# Altium schematic symbol library kmilo17pet-TI_LDO_400_7500.SchLib: 1409 symbols (part 32 of 60)
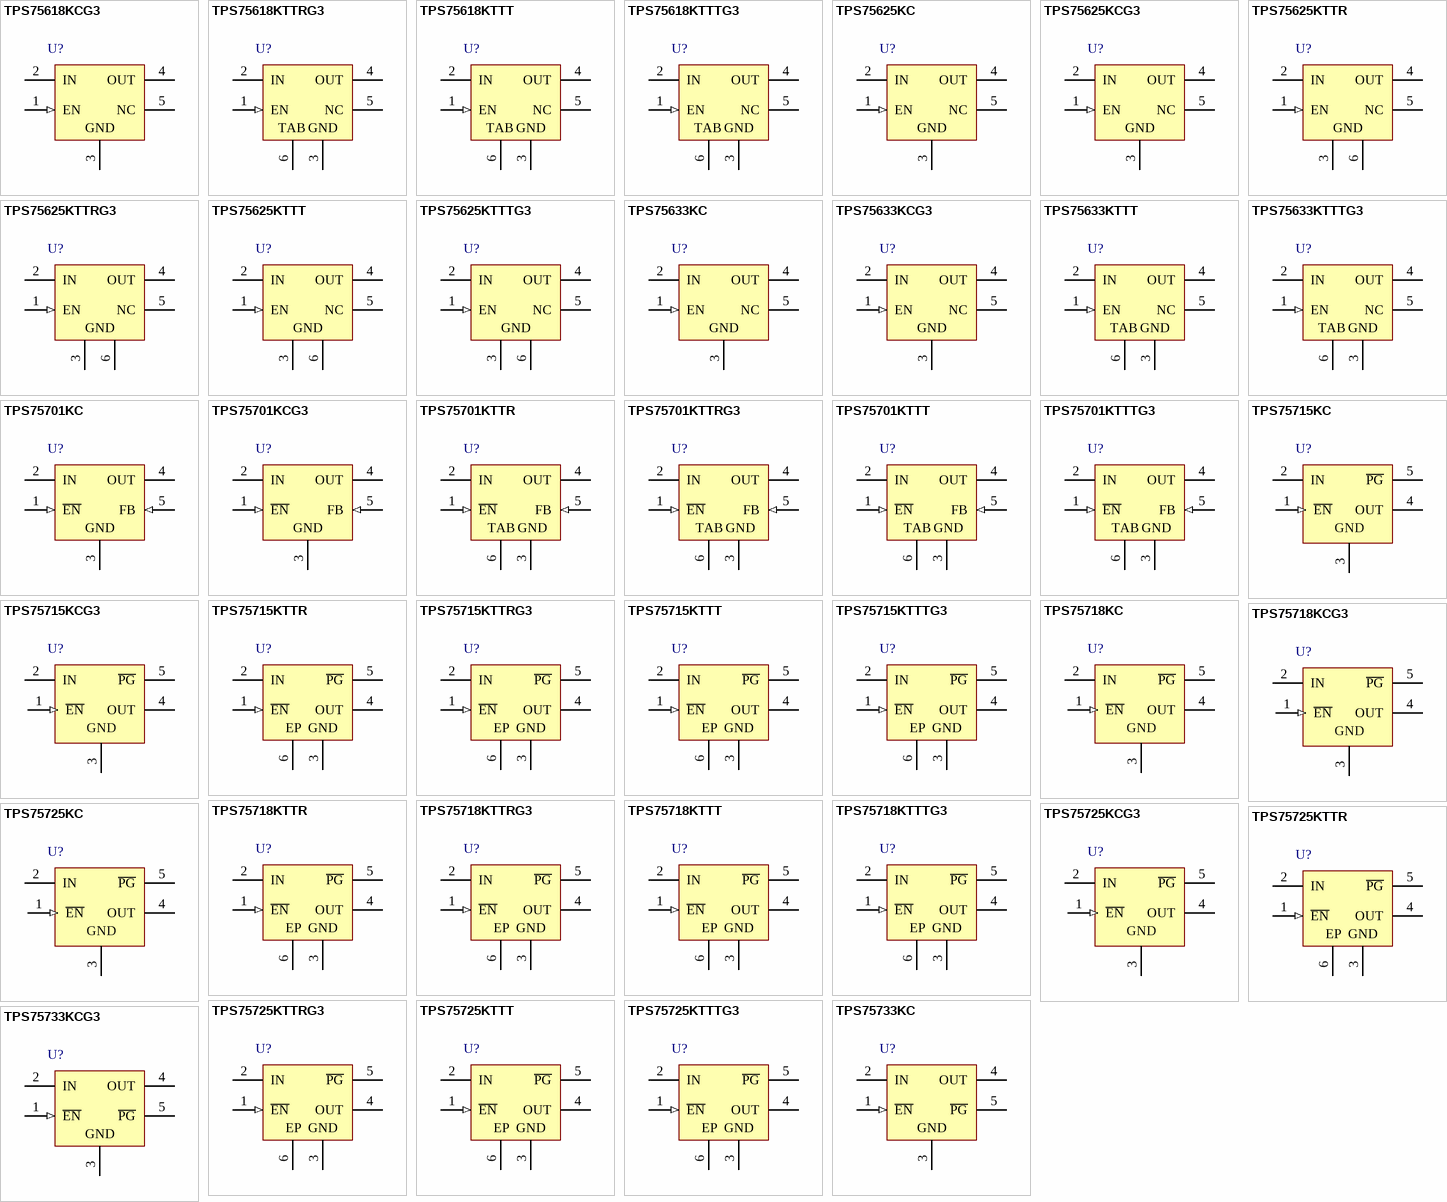
[diagram p81: symbols TPS75618KCG3 to TPS75733KCG3]

## TPS75625KTTR
designator U?
Single Output Fast Transient Response LDO, 5 A, Fixed 2.5 V Output, 2.8 to 5.5 V Input, with Low IQ, 5-pin DDPAK (KTT), -40 to 85 degC, Green (RoHS & no Sb/Br); Manufacturer: Texas Instruments; PartNumber: TPS75625KTTR; Accuracy(%): 3; Fixed Output Options(V): 2.5; Iout(Max)(A): 5; Iq(Typ)(mA): 0.12; SubFamily: Single Channel LDO; Vdo(Typ)(mV): 250; Vin(Max)(V): 5.5; Vin(Min)(V): 2.8; DatasheetVersion: SLVS329C; PackageVersion: 4200577-3/F; PackageReference: KTT5; PackageDescription: 3-Pin Plastic Flange Mount, Body 10.16 x 10.34 mm, Pitch 1.7 mm; Supplier 1: Digi-Key; Supplier Part Number 1: TPS75625KTTR-ND; Supplier 2: Newark; Supplier Part Number 2: 77C0962; Supplier 3: Mouser; Supplier Part Number 3: 595-TPS75625KTTR; Eco-Plan: Green (RoHS & no Sb/Br); Vout Adj(Max)(V): 2.5; Vout Adj(Min)(V): 2.5; Mounting Technology: Surface Mount; Code_JEDEC: TO-263; ComponentLink1Description: Manufacturer URL; ComponentLink1URL: http://www.ti.com/; ComponentLink2Description: Datasheet; ComponentLink2URL: http://www.ti.com/general/docs/lit/getliterature.tsp?genericPartNumber=TPS75625&fileType=pdf; ComponentLink3Description: Package Specification; ComponentLink3URL: http://www.ti.com/litv/pdf/mpsf007e
footprint TI-KTT5_N (DPAK, 5-Leads, Body 10.16x8.925mm, Pitch 1.7mm, IPC Medium Density)
footprint TI-KTT5_L (DPAK, 5-Leads, Body 10.16x8.925mm, Pitch 1.7mm, IPC High Density)
footprint TI-KTT5_M (DPAK, 5-Leads, Body 10.16x8.925mm, Pitch 1.7mm, IPC Low Density)
pins: 1 EN (in) "Enable input", 2 IN (power) "Input voltage", 3 GND (power) "Regulator ground", 4 OUT (power) "Regulated output voltage", 5 NC "No connection for fixed options", 6 GND (power) "Regulator ground"

## TPS75625KTTRG3
designator U?
Single Output Fast Transient Response LDO, 5 A, Fixed 2.5 V Output, 2.8 to 5.5 V Input, with Low IQ, 5-pin DDPAK (KTT), -40 to 85 degC, Green (RoHS & no Sb/Br); Manufacturer: Texas Instruments; PartNumber: TPS75625KTTRG3; Accuracy(%): 3; Fixed Output Options(V): 2.5; Iout(Max)(A): 5; Iq(Typ)(mA): 0.12; SubFamily: Single Channel LDO; Vdo(Typ)(mV): 250; Vin(Max)(V): 5.5; Vin(Min)(V): 2.8; DatasheetVersion: SLVS329C; PackageVersion: 4200577-3/F; PackageReference: KTT5; PackageDescription: 3-Pin Plastic Flange Mount, Body 10.16 x 10.34 mm, Pitch 1.7 mm; Supplier 1: Digi-Key; Supplier Part Number 1: TPS75625KTTRG3-ND; Supplier 2: Mouser; Supplier Part Number 2: 595-TPS75625KTTRG3; Eco-Plan: Green (RoHS & no Sb/Br); Vout Adj(Max)(V): 2.5; Vout Adj(Min)(V): 2.5; Mounting Technology: Surface Mount; Code_JEDEC: TO-263; ComponentLink1Description: Manufacturer URL; ComponentLink1URL: http://www.ti.com/; ComponentLink2Description: Datasheet; ComponentLink2URL: http://www.ti.com/general/docs/lit/getliterature.tsp?genericPartNumber=TPS75625&fileType=pdf; ComponentLink3Description: Package Specification; ComponentLink3URL: http://www.ti.com/litv/pdf/mpsf007e
footprint TI-KTT5_N (DPAK, 5-Leads, Body 10.16x8.925mm, Pitch 1.7mm, IPC Medium Density)
footprint TI-KTT5_L (DPAK, 5-Leads, Body 10.16x8.925mm, Pitch 1.7mm, IPC High Density)
footprint TI-KTT5_M (DPAK, 5-Leads, Body 10.16x8.925mm, Pitch 1.7mm, IPC Low Density)
pins: 1 EN (in) "Enable input", 2 IN (power) "Input voltage", 3 GND (power) "Regulator ground", 4 OUT (power) "Regulated output voltage", 5 NC "No connection for fixed options", 6 GND (power) "Regulator ground"

## TPS75625KTTT
designator U?
Single Output Fast Transient Response LDO, 5 A, Fixed 2.5 V Output, 2.8 to 5.5 V Input, with Low IQ, 5-pin DDPAK (KTT), -40 to 125 degC, Green (RoHS & no Sb/Br); Manufacturer: Texas Instruments; PartNumber: TPS75625KTTT; Accuracy(%): 3; Fixed Output Options(V): 2.5; Iout(Max)(A): 5; Iq(Typ)(mA): 0.12; SubFamily: Single Channel LDO; Vdo(Typ)(mV): 250; Vin(Max)(V): 5.5; Vin(Min)(V): 2.8; DatasheetVersion: SLVS329C; PackageVersion: 4200577-3/F; PackageReference: KTT5; PackageDescription: 3-Pin Plastic Flange Mount, Body 10.16 x 10.34 mm, Pitch 1.7 mm; Supplier 1: Digi-Key; Supplier Part Number 1: 296-15918-2-ND; Supplier 2: Digi-Key; Supplier Part Number 2: 296-15918-1-ND; Supplier 3: Digi-Key; Supplier Part Number 3: 296-15918-6-ND; Supplier 4: Newark; Supplier Part Number 4: 87H2989; Supplier 5: Mouser; Supplier Part Number 5: 595-TPS75625KTTT; Eco-Plan: Green (RoHS & no Sb/Br); Vout Adj(Max)(V): 2.5; Vout Adj(Min)(V): 2.5; Mounting Technology: Surface Mount; Code_JEDEC: TO-263; ComponentLink1Description: Manufacturer URL; ComponentLink1URL: http://www.ti.com/; ComponentLink2Description: Datasheet; ComponentLink2URL: http://www.ti.com/general/docs/lit/getliterature.tsp?genericPartNumber=TPS75625&fileType=pdf; ComponentLink3Description: Package Specification; ComponentLink3URL: http://www.ti.com/litv/pdf/mpsf007e
footprint TI-KTT5_N (DPAK, 5-Leads, Body 10.16x8.925mm, Pitch 1.7mm, IPC Medium Density)
footprint TI-KTT5_L (DPAK, 5-Leads, Body 10.16x8.925mm, Pitch 1.7mm, IPC High Density)
footprint TI-KTT5_M (DPAK, 5-Leads, Body 10.16x8.925mm, Pitch 1.7mm, IPC Low Density)
pins: 1 EN (in) "Enable input", 2 IN (power) "Input voltage", 3 GND (power) "Regulator ground", 4 OUT (power) "Regulated output voltage", 5 NC "No connection for fixed options", 6 GND (power) "Regulator ground"

## TPS75625KTTTG3
designator U?
Single Output Fast Transient Response LDO, 5 A, Fixed 2.5 V Output, 2.8 to 5.5 V Input, with Low IQ, 5-pin DDPAK (KTT), -40 to 125 degC, Green (RoHS & no Sb/Br); Manufacturer: Texas Instruments; PartNumber: TPS75625KTTTG3; Accuracy(%): 3; Fixed Output Options(V): 2.5; Iout(Max)(A): 5; Iq(Typ)(mA): 0.12; SubFamily: Single Channel LDO; Vdo(Typ)(mV): 250; Vin(Max)(V): 5.5; Vin(Min)(V): 2.8; DatasheetVersion: SLVS329C; PackageVersion: 4200577-3/F; PackageReference: KTT5; PackageDescription: 3-Pin Plastic Flange Mount, Body 10.16 x 10.34 mm, Pitch 1.7 mm; Supplier 1: Digi-Key; Supplier Part Number 1: TPS75625KTTTG3-ND; Supplier 2: Mouser; Supplier Part Number 2: 595-TPS75625KTTTG3; Eco-Plan: Green (RoHS & no Sb/Br); Vout Adj(Max)(V): 2.5; Vout Adj(Min)(V): 2.5; Mounting Technology: Surface Mount; Code_JEDEC: TO-263; ComponentLink1Description: Manufacturer URL; ComponentLink1URL: http://www.ti.com/; ComponentLink2Description: Datasheet; ComponentLink2URL: http://www.ti.com/general/docs/lit/getliterature.tsp?genericPartNumber=TPS75625&fileType=pdf; ComponentLink3Description: Package Specification; ComponentLink3URL: http://www.ti.com/litv/pdf/mpsf007e
footprint TI-KTT5_N (DPAK, 5-Leads, Body 10.16x8.925mm, Pitch 1.7mm, IPC Medium Density)
footprint TI-KTT5_L (DPAK, 5-Leads, Body 10.16x8.925mm, Pitch 1.7mm, IPC High Density)
footprint TI-KTT5_M (DPAK, 5-Leads, Body 10.16x8.925mm, Pitch 1.7mm, IPC Low Density)
pins: 1 EN (in) "Enable input", 2 IN (power) "Input voltage", 3 GND (power) "Regulator ground", 4 OUT (power) "Regulated output voltage", 5 NC "No connection for fixed options", 6 GND (power) "Regulator ground"

## TPS75633KC
designator U?
Single Output Fast Transient Response LDO, 5 A, Fixed 3.3 V Output, 2.8 to 5.5 V Input, with Low IQ, 5-pin TO-220 (KC), -40 to 85 degC, Green (RoHS & no Sb/Br); Manufacturer: Texas Instruments; PartNumber: TPS75633KC; Accuracy(%): 3; Fixed Output Options(V): 3.3; Iout(Max)(A): 5; Iq(Typ)(mA): 0.12; SubFamily: Single Channel LDO; Vdo(Typ)(mV): 250; Vin(Max)(V): 5.5; Vin(Min)(V): 2.8; DatasheetVersion: SLVS329C; PackageVersion: 4040208/F; PackageReference: KC5; PackageDescription: 5-Pin Plastic Flange Mount; Supplier 1: Digi-Key; Supplier Part Number 1: 296-11955-5-ND; Supplier 2: Mouser; Supplier Part Number 2: 595-TPS75633KC; Eco-Plan: Green (RoHS & no Sb/Br); Vout Adj(Max)(V): 3.3; Vout Adj(Min)(V): 3.3; Mounting Technology: Through Hole; ComponentLink1Description: Manufacturer URL; ComponentLink1URL: http://www.ti.com/; ComponentLink2Description: Datasheet; ComponentLink2URL: http://www.ti.com/general/docs/lit/getliterature.tsp?genericPartNumber=TPS75633&fileType=pdf; ComponentLink3Description: Package Specification; ComponentLink3URL: http://www.ti.com/litv/pdf/msot008c
footprint TI-KC5 (FM, 5-Leads, Body 10.16x8.46mm, Pitch 1.7mm,)
pins: 1 EN (in) "Enable input", 2 IN (power) "Input supply", 3 GND (power) "Ground", 4 OUT (power) "Regulated output voltage", 5 NC "No connection"

## TPS75633KCG3
designator U?
Single Output Fast Transient Response LDO, 5 A, Fixed 3.3 V Output, 2.8 to 5.5 V Input, with Low IQ, 5-pin TO-220 (KC), -40 to 85 degC, Green (RoHS & no Sb/Br); Manufacturer: Texas Instruments; PartNumber: TPS75633KCG3; Accuracy(%): 3; Fixed Output Options(V): 3.3; Iout(Max)(A): 5; Iq(Typ)(mA): 0.12; SubFamily: Single Channel LDO; Vdo(Typ)(mV): 250; Vin(Max)(V): 5.5; Vin(Min)(V): 2.8; DatasheetVersion: SLVS329C; PackageVersion: 4040208/F; PackageReference: KC5; PackageDescription: 5-Pin Plastic Flange Mount; Supplier 1: Digi-Key; Supplier Part Number 1: TPS75633KCG3-ND; Supplier 2: Mouser; Supplier Part Number 2: 595-TPS75633KCG3; Eco-Plan: Green (RoHS & no Sb/Br); Vout Adj(Max)(V): 3.3; Vout Adj(Min)(V): 3.3; Mounting Technology: Through Hole; ComponentLink1Description: Manufacturer URL; ComponentLink1URL: http://www.ti.com/; ComponentLink2Description: Datasheet; ComponentLink2URL: http://www.ti.com/general/docs/lit/getliterature.tsp?genericPartNumber=TPS75633&fileType=pdf; ComponentLink3Description: Package Specification; ComponentLink3URL: http://www.ti.com/litv/pdf/msot008c
footprint TI-KC5 (FM, 5-Leads, Body 10.16x8.46mm, Pitch 1.7mm,)
pins: 1 EN (in) "Enable input", 2 IN (power) "Input supply", 3 GND (power) "Ground", 4 OUT (power) "Regulated output voltage", 5 NC "No connection"

## TPS75633KTTT
designator U?
Single Output Fast Transient Response LDO, 5 A, Fixed 3.3 V Output, 2.8 to 5.5 V Input, with Low IQ, 5-pin DDPAK (KTT), -40 to 125 degC, Green (RoHS & no Sb/Br); Manufacturer: Texas Instruments; PartNumber: TPS75633KTTT; Accuracy(%): 3; Fixed Output Options(V): 3.3; Iout(Max)(A): 5; Iq(Typ)(mA): 0.12; SubFamily: Single Channel LDO; Vdo(Typ)(mV): 250; Vin(Max)(V): 5.5; Vin(Min)(V): 2.8; DatasheetVersion: SLVS329C; PackageVersion: 4200577-3/F; PackageReference: KTT5; PackageDescription: 3-Pin Plastic Flange Mount, Body 10.16 x 10.34 mm, Pitch 1.7 mm; Supplier 1: Digi-Key; Supplier Part Number 1: 296-15919-2-ND; Supplier 2: Digi-Key; Supplier Part Number 2: 296-15919-1-ND; Supplier 3: Digi-Key; Supplier Part Number 3: 296-15919-6-ND; Supplier 4: Newark; Supplier Part Number 4: 87H2990; Supplier 5: Mouser; Supplier Part Number 5: 595-TPS75633KTTT; Eco-Plan: Green (RoHS & no Sb/Br); Vout Adj(Max)(V): 3.3; Vout Adj(Min)(V): 3.3; Mounting Technology: Surface Mount; Code_JEDEC: TO-263; ComponentLink1Description: Manufacturer URL; ComponentLink1URL: http://www.ti.com/; ComponentLink2Description: Datasheet; ComponentLink2URL: http://www.ti.com/general/docs/lit/getliterature.tsp?genericPartNumber=TPS75633&fileType=pdf; ComponentLink3Description: Package Specification; ComponentLink3URL: http://www.ti.com/litv/pdf/mpsf007e
footprint TI-KTT5_N (DPAK, 5-Leads, Body 10.16x8.925mm, Pitch 1.7mm, IPC Medium Density)
footprint TI-KTT5_L (DPAK, 5-Leads, Body 10.16x8.925mm, Pitch 1.7mm, IPC High Density)
footprint TI-KTT5_M (DPAK, 5-Leads, Body 10.16x8.925mm, Pitch 1.7mm, IPC Low Density)
pins: 1 EN (in) "Enable input", 2 IN (power) "Input voltage", 3 GND (power) "Regulator ground", 4 OUT (power) "Regulated output voltage", 5 NC "No connection for fixed options", 6 TAB (power) "Exposed Thermal Tab"

## TPS75633KTTTG3
designator U?
Single Output Fast Transient Response LDO, 5 A, Fixed 3.3 V Output, 2.8 to 5.5 V Input, with Low IQ, 5-pin DDPAK (KTT), -40 to 125 degC, Green (RoHS & no Sb/Br); Manufacturer: Texas Instruments; PartNumber: TPS75633KTTTG3; Accuracy(%): 3; Fixed Output Options(V): 3.3; Iout(Max)(A): 5; Iq(Typ)(mA): 0.12; SubFamily: Single Channel LDO; Vdo(Typ)(mV): 250; Vin(Max)(V): 5.5; Vin(Min)(V): 2.8; DatasheetVersion: SLVS329C; PackageVersion: 4200577-3/F; PackageReference: KTT5; PackageDescription: 3-Pin Plastic Flange Mount, Body 10.16 x 10.34 mm, Pitch 1.7 mm; Supplier 1: Digi-Key; Supplier Part Number 1: TPS75633KTTTG3-ND; Supplier 2: Newark; Supplier Part Number 2: 61K1920; Supplier 3: Mouser; Supplier Part Number 3: 595-TPS75633KTTTG3; Eco-Plan: Green (RoHS & no Sb/Br); Vout Adj(Max)(V): 3.3; Vout Adj(Min)(V): 3.3; Mounting Technology: Surface Mount; Code_JEDEC: TO-263; ComponentLink1Description: Manufacturer URL; ComponentLink1URL: http://www.ti.com/; ComponentLink2Description: Datasheet; ComponentLink2URL: http://www.ti.com/general/docs/lit/getliterature.tsp?genericPartNumber=TPS75633&fileType=pdf; ComponentLink3Description: Package Specification; ComponentLink3URL: http://www.ti.com/litv/pdf/mpsf007e
footprint TI-KTT5_N (DPAK, 5-Leads, Body 10.16x8.925mm, Pitch 1.7mm, IPC Medium Density)
footprint TI-KTT5_L (DPAK, 5-Leads, Body 10.16x8.925mm, Pitch 1.7mm, IPC High Density)
footprint TI-KTT5_M (DPAK, 5-Leads, Body 10.16x8.925mm, Pitch 1.7mm, IPC Low Density)
pins: 1 EN (in) "Enable input", 2 IN (power) "Input voltage", 3 GND (power) "Regulator ground", 4 OUT (power) "Regulated output voltage", 5 NC "No connection for fixed options", 6 TAB (power) "Exposed Thermal Tab"

## TPS75701KC
designator U?
Single Output Fast Transient Response LDO, 3 A, Adjustable 1.22 to 5 V Output, 2.8 to 5.5 V Input, with Low IQ, 5-pin TO-220 (KC), -40 to 125 degC, Green (RoHS & no Sb/Br); Manufacturer: Texas Instruments; PartNumber: TPS75701KC; Iout(Max)(A): 3; Iq(Typ)(mA): 0.12; Power Good: TRUE; SubFamily: Single Channel LDO; Vdo(Typ)(mV): 150; Vin(Max)(V): 5.5; Vin(Min)(V): 2.8; Vout Adj(Max)(V): 5; Vout Adj(Min)(V): 1.22; DatasheetVersion: SLVS306E; PackageVersion: 4040208/F; PackageReference: KC5; PackageDescription: 5-Pin Plastic Flange Mount; Supplier 1: Digi-Key; Supplier Part Number 1: 296-10998-5-ND; Supplier 2: Newark; Supplier Part Number 2: 77C0966; Supplier 3: Mouser; Supplier Part Number 3: 595-TPS75701KC; Eco-Plan: Green (RoHS & no Sb/Br); Mounting Technology: Through Hole; ComponentLink1Description: Manufacturer URL; ComponentLink1URL: http://www.ti.com/; ComponentLink2Description: Datasheet; ComponentLink2URL: http://www.ti.com/general/docs/lit/getliterature.tsp?genericPartNumber=TPS75701&fileType=pdf; ComponentLink3Description: Package Specification; ComponentLink3URL: http://www.ti.com/litv/pdf/msot008c
footprint TI-KC5 (FM, 5-Leads, Body 10.16x8.46mm, Pitch 1.7mm,)
pins: 1 ~{EN} (in) "Enable input", 2 IN (power) "Input voltage", 3 GND (power) "Regulator ground", 4 OUT (power) "Regulated output voltage", 5 FB (in) "Feedback input voltage for adjustable device"

## TPS75701KCG3
designator U?
Single Output Fast Transient Response LDO, 3 A, Adjustable 1.22 to 5 V Output, 2.8 to 5.5 V Input, with Low IQ, 5-pin TO-220 (KC), -40 to 125 degC, Green (RoHS & no Sb/Br); Manufacturer: Texas Instruments; PartNumber: TPS75701KCG3; Iout(Max)(A): 3; Iq(Typ)(mA): 0.12; Power Good: TRUE; SubFamily: Single Channel LDO; Vdo(Typ)(mV): 150; Vin(Max)(V): 5.5; Vin(Min)(V): 2.8; Vout Adj(Max)(V): 5; Vout Adj(Min)(V): 1.22; DatasheetVersion: SLVS306E; PackageVersion: 4040208/F; PackageReference: KC5; PackageDescription: 5-Pin Plastic Flange Mount; Supplier 1: Digi-Key; Supplier Part Number 1: TPS75701KCG3-ND; Supplier 2: Mouser; Supplier Part Number 2: 595-TPS75701KCG3; Eco-Plan: Green (RoHS & no Sb/Br); Mounting Technology: Through Hole; ComponentLink1Description: Manufacturer URL; ComponentLink1URL: http://www.ti.com/; ComponentLink2Description: Datasheet; ComponentLink2URL: http://www.ti.com/general/docs/lit/getliterature.tsp?genericPartNumber=TPS75701&fileType=pdf; ComponentLink3Description: Package Specification; ComponentLink3URL: http://www.ti.com/litv/pdf/msot008c
footprint TI-KC5 (FM, 5-Leads, Body 10.16x8.46mm, Pitch 1.7mm,)
pins: 1 ~{EN} (in) "Enable input", 2 IN (power) "Input voltage", 3 GND (power) "Regulator ground", 4 OUT (power) "Regulated output voltage", 5 FB (in) "Feedback input voltage for adjustable device"

## TPS75701KTTR
designator U?
Single Output Fast Transient Response LDO, 3 A, Adjustable 1.22 to 5 V Output, 2.8 to 5.5 V Input, with Low IQ, 5-pin DDPAK (KTT), -40 to 125 degC, Green (RoHS & no Sb/Br); Manufacturer: Texas Instruments; PartNumber: TPS75701KTTR; Iout(Max)(A): 3; Iq(Typ)(mA): 0.12; Power Good: TRUE; SubFamily: Single Channel LDO; Vdo(Typ)(mV): 150; Vin(Max)(V): 5.5; Vin(Min)(V): 2.8; Vout Adj(Max)(V): 5; Vout Adj(Min)(V): 1.22; DatasheetVersion: SLVS306E; PackageVersion: 4200577-3/F; PackageReference: KTT5; PackageDescription: 3-Pin Plastic Flange Mount, Body 10.16 x 10.34 mm, Pitch 1.7 mm; Supplier 1: Digi-Key; Supplier Part Number 1: TPS75701KTTR-ND; Supplier 2: Newark; Supplier Part Number 2: 77C0968; Supplier 3: Mouser; Supplier Part Number 3: 595-TPS75701KTTR; Eco-Plan: Green (RoHS & no Sb/Br); Mounting Technology: Surface Mount; Code_JEDEC: TO-263; ComponentLink1Description: Manufacturer URL; ComponentLink1URL: http://www.ti.com/; ComponentLink2Description: Datasheet; ComponentLink2URL: http://www.ti.com/general/docs/lit/getliterature.tsp?genericPartNumber=TPS75701&fileType=pdf; ComponentLink3Description: Package Specification; ComponentLink3URL: http://www.ti.com/litv/pdf/mpsf007e
footprint TI-KTT5_N (DPAK, 5-Leads, Body 10.16x8.925mm, Pitch 1.7mm, IPC Medium Density)
footprint TI-KTT5_L (DPAK, 5-Leads, Body 10.16x8.925mm, Pitch 1.7mm, IPC High Density)
footprint TI-KTT5_M (DPAK, 5-Leads, Body 10.16x8.925mm, Pitch 1.7mm, IPC Low Density)
pins: 1 ~{EN} (in) "Enable input", 2 IN (power) "Input voltage", 3 GND (power) "Regulator ground", 4 OUT (power) "Regulated output voltage", 5 FB (in) "Feedback input voltage for adjustable device", 6 TAB (power)

## TPS75701KTTRG3
designator U?
Single Output Fast Transient Response LDO, 3 A, Adjustable 1.22 to 5 V Output, 2.8 to 5.5 V Input, with Low IQ, 5-pin DDPAK (KTT), -40 to 125 degC, Green (RoHS & no Sb/Br); Manufacturer: Texas Instruments; PartNumber: TPS75701KTTRG3; Iout(Max)(A): 3; Iq(Typ)(mA): 0.12; Power Good: TRUE; SubFamily: Single Channel LDO; Vdo(Typ)(mV): 150; Vin(Max)(V): 5.5; Vin(Min)(V): 2.8; Vout Adj(Max)(V): 5; Vout Adj(Min)(V): 1.22; DatasheetVersion: SLVS306E; PackageVersion: 4200577-3/F; PackageReference: KTT5; PackageDescription: 3-Pin Plastic Flange Mount, Body 10.16 x 10.34 mm, Pitch 1.7 mm; Supplier 1: Digi-Key; Supplier Part Number 1: TPS75701KTTRG3-ND; Supplier 2: Mouser; Supplier Part Number 2: 595-TPS75701KTTRG3; Eco-Plan: Green (RoHS & no Sb/Br); Mounting Technology: Surface Mount; Code_JEDEC: TO-263; ComponentLink1Description: Manufacturer URL; ComponentLink1URL: http://www.ti.com/; ComponentLink2Description: Datasheet; ComponentLink2URL: http://www.ti.com/general/docs/lit/getliterature.tsp?genericPartNumber=TPS75701&fileType=pdf; ComponentLink3Description: Package Specification; ComponentLink3URL: http://www.ti.com/litv/pdf/mpsf007e
footprint TI-KTT5_N (DPAK, 5-Leads, Body 10.16x8.925mm, Pitch 1.7mm, IPC Medium Density)
footprint TI-KTT5_L (DPAK, 5-Leads, Body 10.16x8.925mm, Pitch 1.7mm, IPC High Density)
footprint TI-KTT5_M (DPAK, 5-Leads, Body 10.16x8.925mm, Pitch 1.7mm, IPC Low Density)
pins: 1 ~{EN} (in) "Enable input", 2 IN (power) "Input voltage", 3 GND (power) "Regulator ground", 4 OUT (power) "Regulated output voltage", 5 FB (in) "Feedback input voltage for adjustable device", 6 TAB (power)

## TPS75701KTTT
designator U?
Single Output Fast Transient Response LDO, 3 A, Adjustable 1.22 to 5 V Output, 2.8 to 5.5 V Input, with Low IQ, 5-pin DDPAK (KTT), -40 to 125 degC, Green (RoHS & no Sb/Br); Manufacturer: Texas Instruments; PartNumber: TPS75701KTTT; Iout(Max)(A): 3; Iq(Typ)(mA): 0.12; Power Good: TRUE; SubFamily: Single Channel LDO; Vdo(Typ)(mV): 150; Vin(Max)(V): 5.5; Vin(Min)(V): 2.8; Vout Adj(Max)(V): 5; Vout Adj(Min)(V): 1.22; DatasheetVersion: SLVS306E; PackageVersion: 4200577-3/F; PackageReference: KTT5; PackageDescription: 3-Pin Plastic Flange Mount, Body 10.16 x 10.34 mm, Pitch 1.7 mm; Supplier 1: Digi-Key; Supplier Part Number 1: 296-15920-2-ND; Supplier 2: Digi-Key; Supplier Part Number 2: 296-15920-1-ND; Supplier 3: Digi-Key; Supplier Part Number 3: 296-15920-6-ND; Supplier 4: Newark; Supplier Part Number 4: 87H2991; Supplier 5: Mouser; Supplier Part Number 5: 595-TPS75701KTTT; Eco-Plan: Green (RoHS & no Sb/Br); Mounting Technology: Surface Mount; Code_JEDEC: TO-263; ComponentLink1Description: Manufacturer URL; ComponentLink1URL: http://www.ti.com/; ComponentLink2Description: Datasheet; ComponentLink2URL: http://www.ti.com/general/docs/lit/getliterature.tsp?genericPartNumber=TPS75701&fileType=pdf; ComponentLink3Description: Package Specification; ComponentLink3URL: http://www.ti.com/litv/pdf/mpsf007e
footprint TI-KTT5_N (DPAK, 5-Leads, Body 10.16x8.925mm, Pitch 1.7mm, IPC Medium Density)
footprint TI-KTT5_L (DPAK, 5-Leads, Body 10.16x8.925mm, Pitch 1.7mm, IPC High Density)
footprint TI-KTT5_M (DPAK, 5-Leads, Body 10.16x8.925mm, Pitch 1.7mm, IPC Low Density)
pins: 1 ~{EN} (in) "Enable input", 2 IN (power) "Input voltage", 3 GND (power) "Regulator ground", 4 OUT (power) "Regulated output voltage", 5 FB (in) "Feedback input voltage for adjustable device", 6 TAB (power)

## TPS75701KTTTG3
designator U?
Single Output Fast Transient Response LDO, 3 A, Adjustable 1.22 to 5 V Output, 2.8 to 5.5 V Input, with Low IQ, 5-pin DDPAK (KTT), -40 to 125 degC, Green (RoHS & no Sb/Br); Manufacturer: Texas Instruments; PartNumber: TPS75701KTTTG3; Iout(Max)(A): 3; Iq(Typ)(mA): 0.12; Power Good: TRUE; SubFamily: Single Channel LDO; Vdo(Typ)(mV): 150; Vin(Max)(V): 5.5; Vin(Min)(V): 2.8; Vout Adj(Max)(V): 5; Vout Adj(Min)(V): 1.22; DatasheetVersion: SLVS306E; PackageVersion: 4200577-3/F; PackageReference: KTT5; PackageDescription: 3-Pin Plastic Flange Mount, Body 10.16 x 10.34 mm, Pitch 1.7 mm; Supplier 1: Digi-Key; Supplier Part Number 1: TPS75701KTTTG3-ND; Supplier 2: Mouser; Supplier Part Number 2: 595-TPS75701KTTTG3; Eco-Plan: Green (RoHS & no Sb/Br); Mounting Technology: Surface Mount; Code_JEDEC: TO-263; ComponentLink1Description: Manufacturer URL; ComponentLink1URL: http://www.ti.com/; ComponentLink2Description: Datasheet; ComponentLink2URL: http://www.ti.com/general/docs/lit/getliterature.tsp?genericPartNumber=TPS75701&fileType=pdf; ComponentLink3Description: Package Specification; ComponentLink3URL: http://www.ti.com/litv/pdf/mpsf007e
footprint TI-KTT5_N (DPAK, 5-Leads, Body 10.16x8.925mm, Pitch 1.7mm, IPC Medium Density)
footprint TI-KTT5_L (DPAK, 5-Leads, Body 10.16x8.925mm, Pitch 1.7mm, IPC High Density)
footprint TI-KTT5_M (DPAK, 5-Leads, Body 10.16x8.925mm, Pitch 1.7mm, IPC Low Density)
pins: 1 ~{EN} (in) "Enable input", 2 IN (power) "Input voltage", 3 GND (power) "Regulator ground", 4 OUT (power) "Regulated output voltage", 5 FB (in) "Feedback input voltage for adjustable device", 6 TAB (power)

## TPS75715KC
designator U?
Single Output Fast Transient Response LDO, 3 A, Fixed 1.5 V Output, 2.8 to 5.5 V Input, with Low IQ, 5-pin TO-220 (KC), -40 to 125 degC, Green (RoHS & no Sb/Br); Manufacturer: Texas Instruments; PartNumber: TPS75715KC; Fixed Output Options(V): 1.5; Iout(Max)(A): 3; Iq(Typ)(mA): 0.12; Power Good: TRUE; SubFamily: Single Channel LDO; Vdo(Typ)(mV): 150; Vin(Max)(V): 5.5; Vin(Min)(V): 2.8; DatasheetVersion: SLVS306E; PackageVersion: 4040208/F; PackageReference: KC5; PackageDescription: 5-Pin Plastic Flange Mount; Supplier 1: Digi-Key; Supplier Part Number 1: 296-11000-5-ND; Supplier 2: Mouser; Supplier Part Number 2: 595-TPS75715KC; Eco-Plan: Green (RoHS & no Sb/Br); Vout Adj(Max)(V): 1.5; Vout Adj(Min)(V): 1.5; Mounting Technology: Through Hole; ComponentLink1Description: Manufacturer URL; ComponentLink1URL: http://www.ti.com/; ComponentLink2Description: Datasheet; ComponentLink2URL: http://www.ti.com/general/docs/lit/getliterature.tsp?genericPartNumber=TPS75715&fileType=pdf; ComponentLink3Description: Package Specification; ComponentLink3URL: http://www.ti.com/litv/pdf/msot008c
footprint TI-KC5 (FM, 5-Leads, Body 10.16x8.46mm, Pitch 1.7mm,)
pins: 1 ~{EN} (in) "Enable input", 2 IN (power) "Input voltage", 3 GND (power) "Regulator ground", 4 OUT (power) "Regulated output voltage", 5 ~{PG} (hiz) "P\G\ output for fixed options"

## TPS75715KCG3
designator U?
Single Output Fast Transient Response LDO, 3 A, Fixed 1.5 V Output, 2.8 to 5.5 V Input, with Low IQ, 5-pin TO-220 (KC), -40 to 125 degC, Green (RoHS & no Sb/Br); Manufacturer: Texas Instruments; PartNumber: TPS75715KCG3; Fixed Output Options(V): 1.5; Iout(Max)(A): 3; Iq(Typ)(mA): 0.12; Power Good: TRUE; SubFamily: Single Channel LDO; Vdo(Typ)(mV): 150; Vin(Max)(V): 5.5; Vin(Min)(V): 2.8; DatasheetVersion: SLVS306E; PackageVersion: 4040208/F; PackageReference: KC5; PackageDescription: 5-Pin Plastic Flange Mount; Supplier 1: Digi-Key; Supplier Part Number 1: TPS75715KCG3-ND; Supplier 2: Mouser; Supplier Part Number 2: 595-TPS75715KCG3; Eco-Plan: Green (RoHS & no Sb/Br); Vout Adj(Max)(V): 1.5; Vout Adj(Min)(V): 1.5; Mounting Technology: Through Hole; ComponentLink1Description: Manufacturer URL; ComponentLink1URL: http://www.ti.com/; ComponentLink2Description: Datasheet; ComponentLink2URL: http://www.ti.com/general/docs/lit/getliterature.tsp?genericPartNumber=TPS75715&fileType=pdf; ComponentLink3Description: Package Specification; ComponentLink3URL: http://www.ti.com/litv/pdf/msot008c
footprint TI-KC5 (FM, 5-Leads, Body 10.16x8.46mm, Pitch 1.7mm,)
pins: 1 ~{EN} (in) "Enable input", 2 IN (power) "Input voltage", 3 GND (power) "Regulator ground", 4 OUT (power) "Regulated output voltage", 5 ~{PG} (hiz) "P\G\ output for fixed options"

## TPS75715KTTR
designator U?
Single Output Fast Transient Response LDO, 3 A, Fixed 1.5 V Output, 2.8 to 5.5 V Input, with Low IQ, 5-pin DDPAK (KTT), -40 to 125 degC, Green (RoHS & no Sb/Br); Manufacturer: Texas Instruments; PartNumber: TPS75715KTTR; Fixed Output Options(V): 1.5; Iout(Max)(A): 3; Iq(Typ)(mA): 0.12; Power Good: TRUE; SubFamily: Single Channel LDO; Vdo(Typ)(mV): 150; Vin(Max)(V): 5.5; Vin(Min)(V): 2.8; DatasheetVersion: SLVS306E; PackageVersion: 4200577-3/F; PackageReference: KTT5; PackageDescription: 3-Pin Plastic Flange Mount, Body 10.16 x 10.34 mm, Pitch 1.7 mm; Supplier 1: Digi-Key; Supplier Part Number 1: TPS75715KTTR-ND; Supplier 2: Newark; Supplier Part Number 2: 77C0971; Supplier 3: Mouser; Supplier Part Number 3: 595-TPS75715KTTR; Eco-Plan: Green (RoHS & no Sb/Br); Vout Adj(Max)(V): 1.5; Vout Adj(Min)(V): 1.5; Mounting Technology: Surface Mount; Code_JEDEC: TO-263; ComponentLink1Description: Manufacturer URL; ComponentLink1URL: http://www.ti.com/; ComponentLink2Description: Datasheet; ComponentLink2URL: http://www.ti.com/general/docs/lit/getliterature.tsp?genericPartNumber=TPS75715&fileType=pdf; ComponentLink3Description: Package Specification; ComponentLink3URL: http://www.ti.com/litv/pdf/mpsf007e
footprint TI-KTT5_N (DPAK, 5-Leads, Body 10.16x8.925mm, Pitch 1.7mm, IPC Medium Density)
footprint TI-KTT5_L (DPAK, 5-Leads, Body 10.16x8.925mm, Pitch 1.7mm, IPC High Density)
footprint TI-KTT5_M (DPAK, 5-Leads, Body 10.16x8.925mm, Pitch 1.7mm, IPC Low Density)
pins: 1 ~{EN} (in) "Enable input", 2 IN (power) "Input voltage", 3 GND (power) "Regulator ground", 4 OUT (power) "Regulated output voltage", 5 ~{PG} (hiz) "P\G\ output for fixed options", 6 EP (power) "Connect to GND or Float"

## TPS75715KTTRG3
designator U?
Single Output Fast Transient Response LDO, 3 A, Fixed 1.5 V Output, 2.8 to 5.5 V Input, with Low IQ, 5-pin DDPAK (KTT), -40 to 125 degC, Green (RoHS & no Sb/Br); Manufacturer: Texas Instruments; PartNumber: TPS75715KTTRG3; Fixed Output Options(V): 1.5; Iout(Max)(A): 3; Iq(Typ)(mA): 0.12; Power Good: TRUE; SubFamily: Single Channel LDO; Vdo(Typ)(mV): 150; Vin(Max)(V): 5.5; Vin(Min)(V): 2.8; DatasheetVersion: SLVS306E; PackageVersion: 4200577-3/F; PackageReference: KTT5; PackageDescription: 3-Pin Plastic Flange Mount, Body 10.16 x 10.34 mm, Pitch 1.7 mm; Supplier 1: Digi-Key; Supplier Part Number 1: TPS75715KTTRG3-ND; Supplier 2: Newark; Supplier Part Number 2: 73K9628; Supplier 3: Mouser; Supplier Part Number 3: 595-TPS75715KTTRG3; Eco-Plan: Green (RoHS & no Sb/Br); Vout Adj(Max)(V): 1.5; Vout Adj(Min)(V): 1.5; Mounting Technology: Surface Mount; Code_JEDEC: TO-263; ComponentLink1Description: Manufacturer URL; ComponentLink1URL: http://www.ti.com/; ComponentLink2Description: Datasheet; ComponentLink2URL: http://www.ti.com/general/docs/lit/getliterature.tsp?genericPartNumber=TPS75715&fileType=pdf; ComponentLink3Description: Package Specification; ComponentLink3URL: http://www.ti.com/litv/pdf/mpsf007e
footprint TI-KTT5_N (DPAK, 5-Leads, Body 10.16x8.925mm, Pitch 1.7mm, IPC Medium Density)
footprint TI-KTT5_L (DPAK, 5-Leads, Body 10.16x8.925mm, Pitch 1.7mm, IPC High Density)
footprint TI-KTT5_M (DPAK, 5-Leads, Body 10.16x8.925mm, Pitch 1.7mm, IPC Low Density)
pins: 1 ~{EN} (in) "Enable input", 2 IN (power) "Input voltage", 3 GND (power) "Regulator ground", 4 OUT (power) "Regulated output voltage", 5 ~{PG} (hiz) "P\G\ output for fixed options", 6 EP (power) "Connect to GND or Float"

## TPS75715KTTT
designator U?
Single Output Fast Transient Response LDO, 3 A, Fixed 1.5 V Output, 2.8 to 5.5 V Input, with Low IQ, 5-pin DDPAK (KTT), -40 to 125 degC, Green (RoHS & no Sb/Br); Manufacturer: Texas Instruments; PartNumber: TPS75715KTTT; Fixed Output Options(V): 1.5; Iout(Max)(A): 3; Iq(Typ)(mA): 0.12; Power Good: TRUE; SubFamily: Single Channel LDO; Vdo(Typ)(mV): 150; Vin(Max)(V): 5.5; Vin(Min)(V): 2.8; DatasheetVersion: SLVS306E; PackageVersion: 4200577-3/F; PackageReference: KTT5; PackageDescription: 3-Pin Plastic Flange Mount, Body 10.16 x 10.34 mm, Pitch 1.7 mm; Supplier 1: Digi-Key; Supplier Part Number 1: 296-15921-2-ND; Supplier 2: Digi-Key; Supplier Part Number 2: 296-15921-1-ND; Supplier 3: Digi-Key; Supplier Part Number 3: 296-15921-6-ND; Supplier 4: Newark; Supplier Part Number 4: 87H2992; Supplier 5: Mouser; Supplier Part Number 5: 595-TPS75715KTTT; Eco-Plan: Green (RoHS & no Sb/Br); Vout Adj(Max)(V): 1.5; Vout Adj(Min)(V): 1.5; Mounting Technology: Surface Mount; Code_JEDEC: TO-263; ComponentLink1Description: Manufacturer URL; ComponentLink1URL: http://www.ti.com/; ComponentLink2Description: Datasheet; ComponentLink2URL: http://www.ti.com/general/docs/lit/getliterature.tsp?genericPartNumber=TPS75715&fileType=pdf; ComponentLink3Description: Package Specification; ComponentLink3URL: http://www.ti.com/litv/pdf/mpsf007e
footprint TI-KTT5_N (DPAK, 5-Leads, Body 10.16x8.925mm, Pitch 1.7mm, IPC Medium Density)
footprint TI-KTT5_L (DPAK, 5-Leads, Body 10.16x8.925mm, Pitch 1.7mm, IPC High Density)
footprint TI-KTT5_M (DPAK, 5-Leads, Body 10.16x8.925mm, Pitch 1.7mm, IPC Low Density)
pins: 1 ~{EN} (in) "Enable input", 2 IN (power) "Input voltage", 3 GND (power) "Regulator ground", 4 OUT (power) "Regulated output voltage", 5 ~{PG} (hiz) "P\G\ output for fixed options", 6 EP (power) "Connect to GND or Float"

## TPS75715KTTTG3
designator U?
Single Output Fast Transient Response LDO, 3 A, Fixed 1.5 V Output, 2.8 to 5.5 V Input, with Low IQ, 5-pin DDPAK (KTT), -40 to 125 degC, Green (RoHS & no Sb/Br); Manufacturer: Texas Instruments; PartNumber: TPS75715KTTTG3; Fixed Output Options(V): 1.5; Iout(Max)(A): 3; Iq(Typ)(mA): 0.12; Power Good: TRUE; SubFamily: Single Channel LDO; Vdo(Typ)(mV): 150; Vin(Max)(V): 5.5; Vin(Min)(V): 2.8; DatasheetVersion: SLVS306E; PackageVersion: 4200577-3/F; PackageReference: KTT5; PackageDescription: 3-Pin Plastic Flange Mount, Body 10.16 x 10.34 mm, Pitch 1.7 mm; Supplier 1: Digi-Key; Supplier Part Number 1: TPS75715KTTTG3-ND; Supplier 2: Newark; Supplier Part Number 2: 58K6979; Supplier 3: Mouser; Supplier Part Number 3: 595-TPS75715KTTTG3; Eco-Plan: Green (RoHS & no Sb/Br); Vout Adj(Max)(V): 1.5; Vout Adj(Min)(V): 1.5; Mounting Technology: Surface Mount; Code_JEDEC: TO-263; ComponentLink1Description: Manufacturer URL; ComponentLink1URL: http://www.ti.com/; ComponentLink2Description: Datasheet; ComponentLink2URL: http://www.ti.com/general/docs/lit/getliterature.tsp?genericPartNumber=TPS75715&fileType=pdf; ComponentLink3Description: Package Specification; ComponentLink3URL: http://www.ti.com/litv/pdf/mpsf007e
footprint TI-KTT5_N (DPAK, 5-Leads, Body 10.16x8.925mm, Pitch 1.7mm, IPC Medium Density)
footprint TI-KTT5_L (DPAK, 5-Leads, Body 10.16x8.925mm, Pitch 1.7mm, IPC High Density)
footprint TI-KTT5_M (DPAK, 5-Leads, Body 10.16x8.925mm, Pitch 1.7mm, IPC Low Density)
pins: 1 ~{EN} (in) "Enable input", 2 IN (power) "Input voltage", 3 GND (power) "Regulator ground", 4 OUT (power) "Regulated output voltage", 5 ~{PG} (hiz) "P\G\ output for fixed options", 6 EP (power) "Connect to GND or Float"

## TPS75718KC
designator U?
Single Output Fast Transient Response LDO, 3 A, Fixed 1.8 V Output, 2.8 to 5.5 V Input, with Low IQ, 5-pin TO-220 (KC), -40 to 125 degC, Green (RoHS & no Sb/Br); Manufacturer: Texas Instruments; PartNumber: TPS75718KC; Fixed Output Options(V): 1.8; Iout(Max)(A): 3; Iq(Typ)(mA): 0.12; Power Good: TRUE; SubFamily: Single Channel LDO; Vdo(Typ)(mV): 150; Vin(Max)(V): 5.5; Vin(Min)(V): 2.8; DatasheetVersion: SLVS306E; PackageVersion: 4040208/F; PackageReference: KC5; PackageDescription: 5-Pin Plastic Flange Mount; Supplier 1: Digi-Key; Supplier Part Number 1: 296-11002-5-ND; Supplier 2: Newark; Supplier Part Number 2: 77C0972; Supplier 3: Mouser; Supplier Part Number 3: 595-TPS75718KC; Eco-Plan: Green (RoHS & no Sb/Br); Vout Adj(Max)(V): 1.8; Vout Adj(Min)(V): 1.8; Mounting Technology: Through Hole; ComponentLink1Description: Manufacturer URL; ComponentLink1URL: http://www.ti.com/; ComponentLink2Description: Datasheet; ComponentLink2URL: http://www.ti.com/general/docs/lit/getliterature.tsp?genericPartNumber=TPS75718&fileType=pdf; ComponentLink3Description: Package Specification; ComponentLink3URL: http://www.ti.com/litv/pdf/msot008c
footprint TI-KC5 (FM, 5-Leads, Body 10.16x8.46mm, Pitch 1.7mm,)
pins: 1 ~{EN} (in) "Enable input", 2 IN (power) "Input voltage", 3 GND (power) "Regulator ground", 4 OUT (power) "Regulated output voltage", 5 ~{PG} (hiz) "P\G\ output for fixed options"

## TPS75718KCG3
designator U?
Single Output Fast Transient Response LDO, 3 A, Fixed 1.8 V Output, 2.8 to 5.5 V Input, with Low IQ, 5-pin TO-220 (KC), -40 to 125 degC, Green (RoHS & no Sb/Br); Manufacturer: Texas Instruments; PartNumber: TPS75718KCG3; Fixed Output Options(V): 1.8; Iout(Max)(A): 3; Iq(Typ)(mA): 0.12; Power Good: TRUE; SubFamily: Single Channel LDO; Vdo(Typ)(mV): 150; Vin(Max)(V): 5.5; Vin(Min)(V): 2.8; DatasheetVersion: SLVS306E; PackageVersion: 4040208/F; PackageReference: KC5; PackageDescription: 5-Pin Plastic Flange Mount; Supplier 1: Digi-Key; Supplier Part Number 1: TPS75718KCG3-ND; Supplier 2: Mouser; Supplier Part Number 2: 595-TPS75718KCG3; Eco-Plan: Green (RoHS & no Sb/Br); Vout Adj(Max)(V): 1.8; Vout Adj(Min)(V): 1.8; Mounting Technology: Through Hole; ComponentLink1Description: Manufacturer URL; ComponentLink1URL: http://www.ti.com/; ComponentLink2Description: Datasheet; ComponentLink2URL: http://www.ti.com/general/docs/lit/getliterature.tsp?genericPartNumber=TPS75718&fileType=pdf; ComponentLink3Description: Package Specification; ComponentLink3URL: http://www.ti.com/litv/pdf/msot008c
footprint TI-KC5 (FM, 5-Leads, Body 10.16x8.46mm, Pitch 1.7mm,)
pins: 1 ~{EN} (in) "Enable input", 2 IN (power) "Input voltage", 3 GND (power) "Regulator ground", 4 OUT (power) "Regulated output voltage", 5 ~{PG} (hiz) "P\G\ output for fixed options"

## TPS75718KTTR
designator U?
Single Output Fast Transient Response LDO, 3 A, Fixed 1.8 V Output, 2.8 to 5.5 V Input, with Low IQ, 5-pin DDPAK (KTT), -40 to 125 degC, Green (RoHS & no Sb/Br); Manufacturer: Texas Instruments; PartNumber: TPS75718KTTR; Fixed Output Options(V): 1.8; Iout(Max)(A): 3; Iq(Typ)(mA): 0.12; Power Good: TRUE; SubFamily: Single Channel LDO; Vdo(Typ)(mV): 150; Vin(Max)(V): 5.5; Vin(Min)(V): 2.8; DatasheetVersion: SLVS306E; PackageVersion: 4200577-3/F; PackageReference: KTT5; PackageDescription: 3-Pin Plastic Flange Mount, Body 10.16 x 10.34 mm, Pitch 1.7 mm; Supplier 1: Digi-Key; Supplier Part Number 1: TPS75718KTTR-ND; Supplier 2: Mouser; Supplier Part Number 2: 595-TPS75718KTTR; Eco-Plan: Green (RoHS & no Sb/Br); Vout Adj(Max)(V): 1.8; Vout Adj(Min)(V): 1.8; Mounting Technology: Surface Mount; Code_JEDEC: TO-263; ComponentLink1Description: Manufacturer URL; ComponentLink1URL: http://www.ti.com/; ComponentLink2Description: Datasheet; ComponentLink2URL: http://www.ti.com/general/docs/lit/getliterature.tsp?genericPartNumber=TPS75718&fileType=pdf; ComponentLink3Description: Package Specification; ComponentLink3URL: http://www.ti.com/litv/pdf/mpsf007e
footprint TI-KTT5_N (DPAK, 5-Leads, Body 10.16x8.925mm, Pitch 1.7mm, IPC Medium Density)
footprint TI-KTT5_L (DPAK, 5-Leads, Body 10.16x8.925mm, Pitch 1.7mm, IPC High Density)
footprint TI-KTT5_M (DPAK, 5-Leads, Body 10.16x8.925mm, Pitch 1.7mm, IPC Low Density)
pins: 1 ~{EN} (in) "Enable input", 2 IN (power) "Input voltage", 3 GND (power) "Regulator ground", 4 OUT (power) "Regulated output voltage", 5 ~{PG} (hiz) "P\G\ output for fixed options", 6 EP (power) "Connect to GND or Float"

## TPS75718KTTRG3
designator U?
Single Output Fast Transient Response LDO, 3 A, Fixed 1.8 V Output, 2.8 to 5.5 V Input, with Low IQ, 5-pin DDPAK (KTT), -40 to 125 degC, Green (RoHS & no Sb/Br); Manufacturer: Texas Instruments; PartNumber: TPS75718KTTRG3; Fixed Output Options(V): 1.8; Iout(Max)(A): 3; Iq(Typ)(mA): 0.12; Power Good: TRUE; SubFamily: Single Channel LDO; Vdo(Typ)(mV): 150; Vin(Max)(V): 5.5; Vin(Min)(V): 2.8; DatasheetVersion: SLVS306E; PackageVersion: 4200577-3/F; PackageReference: KTT5; PackageDescription: 3-Pin Plastic Flange Mount, Body 10.16 x 10.34 mm, Pitch 1.7 mm; Supplier 1: Digi-Key; Supplier Part Number 1: TPS75718KTTRG3-ND; Supplier 2: Mouser; Supplier Part Number 2: 595-TPS75718KTTRG3; Eco-Plan: Green (RoHS & no Sb/Br); Vout Adj(Max)(V): 1.8; Vout Adj(Min)(V): 1.8; Mounting Technology: Surface Mount; Code_JEDEC: TO-263; ComponentLink1Description: Manufacturer URL; ComponentLink1URL: http://www.ti.com/; ComponentLink2Description: Datasheet; ComponentLink2URL: http://www.ti.com/general/docs/lit/getliterature.tsp?genericPartNumber=TPS75718&fileType=pdf; ComponentLink3Description: Package Specification; ComponentLink3URL: http://www.ti.com/litv/pdf/mpsf007e
footprint TI-KTT5_N (DPAK, 5-Leads, Body 10.16x8.925mm, Pitch 1.7mm, IPC Medium Density)
footprint TI-KTT5_L (DPAK, 5-Leads, Body 10.16x8.925mm, Pitch 1.7mm, IPC High Density)
footprint TI-KTT5_M (DPAK, 5-Leads, Body 10.16x8.925mm, Pitch 1.7mm, IPC Low Density)
pins: 1 ~{EN} (in) "Enable input", 2 IN (power) "Input voltage", 3 GND (power) "Regulator ground", 4 OUT (power) "Regulated output voltage", 5 ~{PG} (hiz) "P\G\ output for fixed options", 6 EP (power) "Connect to GND or Float"

## TPS75718KTTT
designator U?
Single Output Fast Transient Response LDO, 3 A, Fixed 1.8 V Output, 2.8 to 5.5 V Input, with Low IQ, 5-pin DDPAK (KTT), -40 to 125 degC, Green (RoHS & no Sb/Br); Manufacturer: Texas Instruments; PartNumber: TPS75718KTTT; Fixed Output Options(V): 1.8; Iout(Max)(A): 3; Iq(Typ)(mA): 0.12; Power Good: TRUE; SubFamily: Single Channel LDO; Vdo(Typ)(mV): 150; Vin(Max)(V): 5.5; Vin(Min)(V): 2.8; DatasheetVersion: SLVS306E; PackageVersion: 4200577-3/F; PackageReference: KTT5; PackageDescription: 3-Pin Plastic Flange Mount, Body 10.16 x 10.34 mm, Pitch 1.7 mm; Supplier 1: Digi-Key; Supplier Part Number 1: 296-15922-2-ND; Supplier 2: Digi-Key; Supplier Part Number 2: 296-15922-1-ND; Supplier 3: Digi-Key; Supplier Part Number 3: 296-15922-6-ND; Supplier 4: Mouser; Supplier Part Number 4: 595-TPS75718KTTT; Eco-Plan: Green (RoHS & no Sb/Br); Vout Adj(Max)(V): 1.8; Vout Adj(Min)(V): 1.8; Mounting Technology: Surface Mount; Code_JEDEC: TO-263; ComponentLink1Description: Manufacturer URL; ComponentLink1URL: http://www.ti.com/; ComponentLink2Description: Datasheet; ComponentLink2URL: http://www.ti.com/general/docs/lit/getliterature.tsp?genericPartNumber=TPS75718&fileType=pdf; ComponentLink3Description: Package Specification; ComponentLink3URL: http://www.ti.com/litv/pdf/mpsf007e
footprint TI-KTT5_N (DPAK, 5-Leads, Body 10.16x8.925mm, Pitch 1.7mm, IPC Medium Density)
footprint TI-KTT5_L (DPAK, 5-Leads, Body 10.16x8.925mm, Pitch 1.7mm, IPC High Density)
footprint TI-KTT5_M (DPAK, 5-Leads, Body 10.16x8.925mm, Pitch 1.7mm, IPC Low Density)
pins: 1 ~{EN} (in) "Enable input", 2 IN (power) "Input voltage", 3 GND (power) "Regulator ground", 4 OUT (power) "Regulated output voltage", 5 ~{PG} (hiz) "P\G\ output for fixed options", 6 EP (power) "Connect to GND or Float"

## TPS75718KTTTG3
designator U?
Single Output Fast Transient Response LDO, 3 A, Fixed 1.8 V Output, 2.8 to 5.5 V Input, with Low IQ, 5-pin DDPAK (KTT), -40 to 125 degC, Green (RoHS & no Sb/Br); Manufacturer: Texas Instruments; PartNumber: TPS75718KTTTG3; Fixed Output Options(V): 1.8; Iout(Max)(A): 3; Iq(Typ)(mA): 0.12; Power Good: TRUE; SubFamily: Single Channel LDO; Vdo(Typ)(mV): 150; Vin(Max)(V): 5.5; Vin(Min)(V): 2.8; DatasheetVersion: SLVS306E; PackageVersion: 4200577-3/F; PackageReference: KTT5; PackageDescription: 3-Pin Plastic Flange Mount, Body 10.16 x 10.34 mm, Pitch 1.7 mm; Supplier 1: Digi-Key; Supplier Part Number 1: TPS75718KTTTG3-ND; Supplier 2: Mouser; Supplier Part Number 2: 595-TPS75718KTTTG3; Eco-Plan: Green (RoHS & no Sb/Br); Vout Adj(Max)(V): 1.8; Vout Adj(Min)(V): 1.8; Mounting Technology: Surface Mount; Code_JEDEC: TO-263; ComponentLink1Description: Manufacturer URL; ComponentLink1URL: http://www.ti.com/; ComponentLink2Description: Datasheet; ComponentLink2URL: http://www.ti.com/general/docs/lit/getliterature.tsp?genericPartNumber=TPS75718&fileType=pdf; ComponentLink3Description: Package Specification; ComponentLink3URL: http://www.ti.com/litv/pdf/mpsf007e
footprint TI-KTT5_N (DPAK, 5-Leads, Body 10.16x8.925mm, Pitch 1.7mm, IPC Medium Density)
footprint TI-KTT5_L (DPAK, 5-Leads, Body 10.16x8.925mm, Pitch 1.7mm, IPC High Density)
footprint TI-KTT5_M (DPAK, 5-Leads, Body 10.16x8.925mm, Pitch 1.7mm, IPC Low Density)
pins: 1 ~{EN} (in) "Enable input", 2 IN (power) "Input voltage", 3 GND (power) "Regulator ground", 4 OUT (power) "Regulated output voltage", 5 ~{PG} (hiz) "P\G\ output for fixed options", 6 EP (power) "Connect to GND or Float"

## TPS75725KC
designator U?
Single Output Fast Transient Response LDO, 3 A, Fixed 2.5 V Output, 2.8 to 5.5 V Input, with Low IQ, 5-pin TO-220 (KC), -40 to 125 degC, Green (RoHS & no Sb/Br); Manufacturer: Texas Instruments; PartNumber: TPS75725KC; Fixed Output Options(V): 2.5; Iout(Max)(A): 3; Iq(Typ)(mA): 0.12; Power Good: TRUE; SubFamily: Single Channel LDO; Vdo(Typ)(mV): 150; Vin(Max)(V): 5.5; Vin(Min)(V): 2.8; DatasheetVersion: SLVS306E; PackageVersion: 4040208/F; PackageReference: KC5; PackageDescription: 5-Pin Plastic Flange Mount; Supplier 1: Digi-Key; Supplier Part Number 1: 296-11004-5-ND; Supplier 2: Newark; Supplier Part Number 2: 77C0975; Supplier 3: Mouser; Supplier Part Number 3: 595-TPS75725KC; Eco-Plan: Green (RoHS & no Sb/Br); Vout Adj(Max)(V): 2.5; Vout Adj(Min)(V): 2.5; Mounting Technology: Through Hole; ComponentLink1Description: Manufacturer URL; ComponentLink1URL: http://www.ti.com/; ComponentLink2Description: Datasheet; ComponentLink2URL: http://www.ti.com/general/docs/lit/getliterature.tsp?genericPartNumber=TPS75725&fileType=pdf; ComponentLink3Description: Package Specification; ComponentLink3URL: http://www.ti.com/litv/pdf/msot008c
footprint TI-KC5 (FM, 5-Leads, Body 10.16x8.46mm, Pitch 1.7mm,)
pins: 1 ~{EN} (in) "Enable input", 2 IN (power) "Input voltage", 3 GND (power) "Regulator ground", 4 OUT (power) "Regulated output voltage", 5 ~{PG} (hiz) "P\G\ output for fixed options"

## TPS75725KCG3
designator U?
Single Output Fast Transient Response LDO, 3 A, Fixed 2.5 V Output, 2.8 to 5.5 V Input, with Low IQ, 5-pin TO-220 (KC), -40 to 125 degC, Green (RoHS & no Sb/Br); Manufacturer: Texas Instruments; PartNumber: TPS75725KCG3; Fixed Output Options(V): 2.5; Iout(Max)(A): 3; Iq(Typ)(mA): 0.12; Power Good: TRUE; SubFamily: Single Channel LDO; Vdo(Typ)(mV): 150; Vin(Max)(V): 5.5; Vin(Min)(V): 2.8; DatasheetVersion: SLVS306E; PackageVersion: 4040208/F; PackageReference: KC5; PackageDescription: 5-Pin Plastic Flange Mount; Supplier 1: Digi-Key; Supplier Part Number 1: TPS75725KCG3-ND; Supplier 2: Mouser; Supplier Part Number 2: 595-TPS75725KCG3; Eco-Plan: Green (RoHS & no Sb/Br); Vout Adj(Max)(V): 2.5; Vout Adj(Min)(V): 2.5; Mounting Technology: Through Hole; ComponentLink1Description: Manufacturer URL; ComponentLink1URL: http://www.ti.com/; ComponentLink2Description: Datasheet; ComponentLink2URL: http://www.ti.com/general/docs/lit/getliterature.tsp?genericPartNumber=TPS75725&fileType=pdf; ComponentLink3Description: Package Specification; ComponentLink3URL: http://www.ti.com/litv/pdf/msot008c
footprint TI-KC5 (FM, 5-Leads, Body 10.16x8.46mm, Pitch 1.7mm,)
pins: 1 ~{EN} (in) "Enable input", 2 IN (power) "Input voltage", 3 GND (power) "Regulator ground", 4 OUT (power) "Regulated output voltage", 5 ~{PG} (hiz) "P\G\ output for fixed options"

## TPS75725KTTR
designator U?
Single Output Fast Transient Response LDO, 3 A, Fixed 2.5 V Output, 2.8 to 5.5 V Input, with Low IQ, 5-pin DDPAK (KTT), -40 to 125 degC, Green (RoHS & no Sb/Br); Manufacturer: Texas Instruments; PartNumber: TPS75725KTTR; Fixed Output Options(V): 2.5; Iout(Max)(A): 3; Iq(Typ)(mA): 0.12; Power Good: TRUE; SubFamily: Single Channel LDO; Vdo(Typ)(mV): 150; Vin(Max)(V): 5.5; Vin(Min)(V): 2.8; DatasheetVersion: SLVS306E; PackageVersion: 4200577-3/F; PackageReference: KTT5; PackageDescription: 3-Pin Plastic Flange Mount, Body 10.16 x 10.34 mm, Pitch 1.7 mm; Supplier 1: Digi-Key; Supplier Part Number 1: TPS75725KTTR-ND; Supplier 2: Newark; Supplier Part Number 2: 77C0977; Supplier 3: Mouser; Supplier Part Number 3: 595-TPS75725KTTR; Eco-Plan: Green (RoHS & no Sb/Br); Vout Adj(Max)(V): 2.5; Vout Adj(Min)(V): 2.5; Mounting Technology: Surface Mount; Code_JEDEC: TO-263; ComponentLink1Description: Manufacturer URL; ComponentLink1URL: http://www.ti.com/; ComponentLink2Description: Datasheet; ComponentLink2URL: http://www.ti.com/general/docs/lit/getliterature.tsp?genericPartNumber=TPS75725&fileType=pdf; ComponentLink3Description: Package Specification; ComponentLink3URL: http://www.ti.com/litv/pdf/mpsf007e
footprint TI-KTT5_N (DPAK, 5-Leads, Body 10.16x8.925mm, Pitch 1.7mm, IPC Medium Density)
footprint TI-KTT5_L (DPAK, 5-Leads, Body 10.16x8.925mm, Pitch 1.7mm, IPC High Density)
footprint TI-KTT5_M (DPAK, 5-Leads, Body 10.16x8.925mm, Pitch 1.7mm, IPC Low Density)
pins: 1 ~{EN} (in) "Enable input", 2 IN (power) "Input voltage", 3 GND (power) "Regulator ground", 4 OUT (power) "Regulated output voltage", 5 ~{PG} (hiz) "P\G\ output for fixed options", 6 EP (power) "Connect to GND or Float"

## TPS75725KTTRG3
designator U?
Single Output Fast Transient Response LDO, 3 A, Fixed 2.5 V Output, 2.8 to 5.5 V Input, with Low IQ, 5-pin DDPAK (KTT), -40 to 125 degC, Green (RoHS & no Sb/Br); Manufacturer: Texas Instruments; PartNumber: TPS75725KTTRG3; Fixed Output Options(V): 2.5; Iout(Max)(A): 3; Iq(Typ)(mA): 0.12; Power Good: TRUE; SubFamily: Single Channel LDO; Vdo(Typ)(mV): 150; Vin(Max)(V): 5.5; Vin(Min)(V): 2.8; DatasheetVersion: SLVS306E; PackageVersion: 4200577-3/F; PackageReference: KTT5; PackageDescription: 3-Pin Plastic Flange Mount, Body 10.16 x 10.34 mm, Pitch 1.7 mm; Supplier 1: Digi-Key; Supplier Part Number 1: TPS75725KTTRG3-ND; Supplier 2: Mouser; Supplier Part Number 2: 595-TPS75725KTTRG3; Eco-Plan: Green (RoHS & no Sb/Br); Vout Adj(Max)(V): 2.5; Vout Adj(Min)(V): 2.5; Mounting Technology: Surface Mount; Code_JEDEC: TO-263; ComponentLink1Description: Manufacturer URL; ComponentLink1URL: http://www.ti.com/; ComponentLink2Description: Datasheet; ComponentLink2URL: http://www.ti.com/general/docs/lit/getliterature.tsp?genericPartNumber=TPS75725&fileType=pdf; ComponentLink3Description: Package Specification; ComponentLink3URL: http://www.ti.com/litv/pdf/mpsf007e
footprint TI-KTT5_N (DPAK, 5-Leads, Body 10.16x8.925mm, Pitch 1.7mm, IPC Medium Density)
footprint TI-KTT5_L (DPAK, 5-Leads, Body 10.16x8.925mm, Pitch 1.7mm, IPC High Density)
footprint TI-KTT5_M (DPAK, 5-Leads, Body 10.16x8.925mm, Pitch 1.7mm, IPC Low Density)
pins: 1 ~{EN} (in) "Enable input", 2 IN (power) "Input voltage", 3 GND (power) "Regulator ground", 4 OUT (power) "Regulated output voltage", 5 ~{PG} (hiz) "P\G\ output for fixed options", 6 EP (power) "Connect to GND or Float"